# EAGLE library part PINHD-2X9 (library pinhead)
PIN HEADER
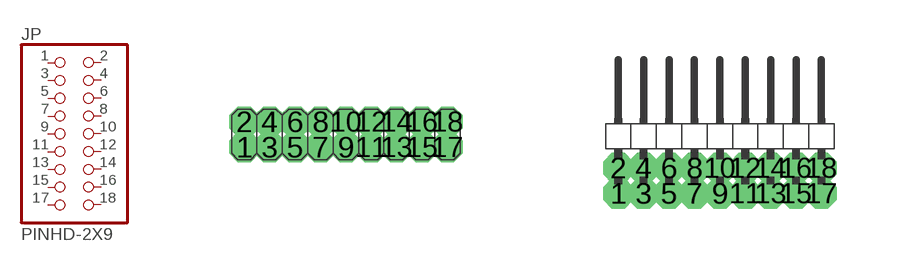
[diagram p26: symbol with the pads of 2X09; footprints 2X09, 2X09/90]

Designator prefix JP

## PINHD-2X9  [2X09]
1  1  pas
2  2  pas
3  3  pas
4  4  pas
5  5  pas
6  6  pas
7  7  pas
8  8  pas
9  9  pas
10  10  pas
11  11  pas
12  12  pas
13  13  pas
14  14  pas
15  15  pas
16  16  pas
17  17  pas
18  18  pas

## PINHD-2X9/90  [2X09/90]
Pads as for 2X09

## Footprint 2X09 (pad centres in mm)
PIN HEADER
drill 0.254 octagon: 1 -2.54,-0.318; 2 -2.54,0.318; 3 -1.905,-0.318; 4 -1.905,0.318; 5 -1.27,-0.318; 6 -1.27,0.318; 7 -0.635,-0.318; 8 -0.635,0.318; 9 0,-0.318; 10 0,0.318; 11 0.635,-0.318; 12 0.635,0.318; 13 1.27,-0.318; 14 1.27,0.318; 15 1.905,-0.318; 16 1.905,0.318; 17 2.54,-0.318; 18 2.54,0.318

## Footprint 2X09/90 (pad centres in mm)
PIN HEADER
drill 0.254 octagon: 1 -2.54,-1.587; 2 -2.54,-0.953; 3 -1.905,-1.587; 4 -1.905,-0.953; 5 -1.27,-1.587; 6 -1.27,-0.953; 7 -0.635,-1.587; 8 -0.635,-0.953; 9 0,-1.587; 10 0,-0.953; 11 0.635,-1.587; 12 0.635,-0.953; 13 1.27,-1.587; 14 1.27,-0.953; 15 1.905,-1.587; 16 1.905,-0.953; 17 2.54,-1.587; 18 2.54,-0.953